# Altium integrated library HR911105A-RG45.IntLib: 1 symbol
Pins are listed as number, name and electrical type; pins without a type are passive.

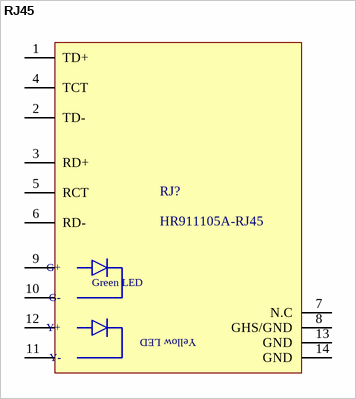
[diagram p0: symbol RJ45]

## RJ45
designator RJ?, comment HR911105A-RJ45
footprint HR91105A-RJ45
pins: 1 TD+, 2 TD-, 3 RD+, 4 TCT, 5 RCT, 6 RD-, 7 N.C, 8 GHS/GND, 9, 10, 11, 12, 13 GND, 14 GND
text: G+; Green LED; G-; Y+; Yellow LED; Y-